# Altium schematic symbol library LT5400BHMS8E-8#TRPBF.SchLib: 1 symbol
Pins are listed as number, name and electrical type; pins without a type are passive.

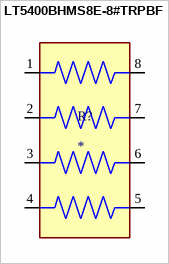
[diagram p0: symbol LT5400BHMS8E-8#TRPBF]

## LT5400BHMS8E-8#TRPBF
designator R?
1k, 9k Ohm Â±15% 800mW Power Per Element Isolated Resistor Network/Array Â±25ppm/Â°C 8-TSSOP, 8-MSOP (0.118", 3.00mm Width) Exposed Pad; MF: {'manufacturer': u'Analog Devices'}; MP: LT5400BHMS8E-8#TRPBF; Package: None; Price: None; Value: *; Availability: Unavailable
footprint SOP65P490X110-9N
pins: 1, 2, 3, 4, 5, 6, 7, 8